# Altium footprint library B36х3RGB-F6C0001HOU1930.PcbLib: 1 footprints
Each footprint in its own frame and in the unit in brackets; x right, y up, seen from the top. Pads: shape width x height; smd on the part's side, far side on the other; paste and mask are expansions set on the pad; w line width, h text height; cw(c..) or ccw(c..) is an arc to the next point about the centre after c.
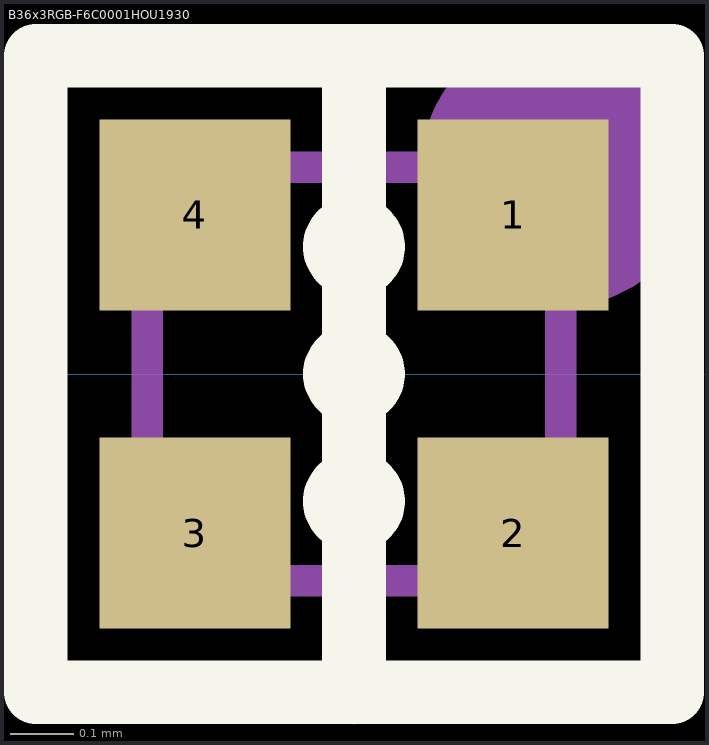
[diagram p0: the footprint, top view; thin cyan lines are the x and y axes]

## B36х3RGB-F6C0001HOU1930 [mm]
height 0.9
pads (4):
  rect 0.3x0.3 smd paste+0 mask+0.05: 1(0.25,0.25) 2(0.25,-0.25) 3(-0.25,-0.25) 4(-0.25,0.25)
Top Overlay:
  circle w0.1: c0,0 r0.03
  circle w0.1: c0,-0.2 r0.03
  circle w0.1: c0,0.2 r0.03
  lines w0.1: 0,-0.5 0,0.5 ; -0.5,-0.5 -0.5,0.5 0.5,0.5 0.5,-0.5 -0.5,-0.5
Top 3D Body:
  lines w0.05: -0.325,-0.325 0.325,-0.325 0.325,0.325 -0.325,0.325 -0.325,-0.325
Top Assembly:
  circle w0.254: c0.325,0.325 r0.092
  lines w0.05: -0.325,-0.325 0.325,-0.325 0.325,0.325 -0.325,0.325 -0.325,-0.325
  text "'.Designator'" at 0,-0.375 h0.8